# Altium footprint library B5819W-TP.PcbLib: 3 footprints
Each footprint in its own frame and in the unit in brackets; x right, y up, seen from the top. Pads: shape width x height; smd on the part's side, far side on the other; paste and mask are expansions set on the pad; w line width, h text height; cw(c..) or ccw(c..) is an arc to the next point about the centre after c.
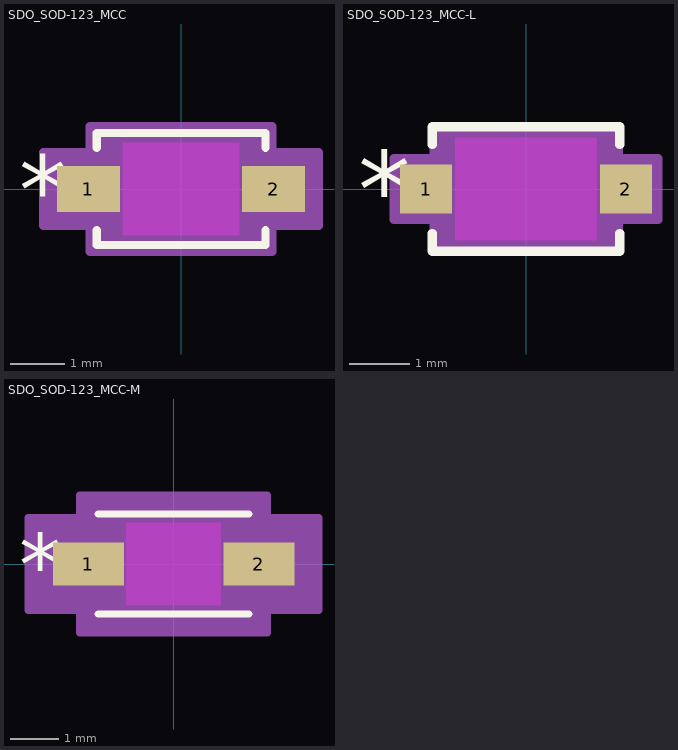
[diagram p0: the footprints below, top view; thin cyan lines are the x and y axes]

## SDO_SOD-123_MCC [mil]
pads (2):
  rect 45.56x33.36 smd paste+0 mask+0: 1(-67,0) 2(67,0)
Top Overlay:
  lines w6: -61,-29.78 -61,-40.5 61,-40.5 61,-29.78 ; -61,29.78 -61,40.5 61,40.5 61,29.78
  text ".Designator" at -137.5,-25 h50
  text "*" at -117.28,-25 h50
Keep-Out Layer:
  region: -42.22,-33.5 -42.22,33.5 42.22,33.5 42.22,-33.5
Mechanical 13:
  lines w1: -56,-17.75 -38.25,-35.5 ; -56,17.75 -38.25,35.5 ; -76,-15.5 -76,15.5 -56,15.5 -56,-15.5 -76,-15.5 ; -56,-35.5 56,-35.5 56,35.5 -56,35.5 -56,-35.5 ; 56,-15.5 56,15.5 76,15.5 76,-15.5 56,-15.5
  text "*" at -58.5,-25 h50
  text ".Designator" at -137.5,-25 h50
Mechanical 15:
  region: -66,-26.68 -99.78,-26.68 -99.78,26.68 -66,26.68 -66,45.5 66,45.5 66,26.68 99.78,26.68 99.78,-26.68 66,-26.68 66,-45.5 -66,-45.5
  lines w6: -99.78,-26.68 -99.78,26.68 -66,26.68 -66,45.5 66,45.5 66,26.68 99.78,26.68 99.78,-26.68 66,-26.68 66,-45.5 -66,-45.5 -66,-26.68 -99.78,-26.68
3D body "SDO_SOD-123_MCC.step": height 59.09, standoff 0, extent -75.98,-35.51 75.98,35.51

## SDO_SOD-123_MCC-L [mil]
pads (2):
  rect 33.75x31.79 smd paste+0 mask+0: 1(-65.03,0) 2(65.03,0)
Top Overlay:
  lines w6: -61,-28.99 -61,-40.5 61,-40.5 61,-28.99 ; -61,28.99 -61,40.5 61,40.5 61,28.99
  text ".Designator" at -137.5,-25 h50
  text "*" at -109.41,-25 h50
Keep-Out Layer:
  region: -46.16,-33.5 -46.16,33.5 46.16,33.5 46.16,-33.5
Mechanical 13:
  lines w1: -56,-17.75 -38.25,-35.5 ; -56,17.75 -38.25,35.5 ; -76,-15.5 -76,15.5 -56,15.5 -56,-15.5 -76,-15.5 ; -56,-35.5 56,-35.5 56,35.5 -56,35.5 -56,-35.5 ; 56,-15.5 56,15.5 76,15.5 76,-15.5 56,-15.5
  text "*" at -58.5,-25 h50
  text ".Designator" at -137.5,-25 h50
Mechanical 15:
  region: -60,-19.89 -85.91,-19.89 -85.91,19.89 -60,19.89 -60,39.5 60,39.5 60,19.89 85.91,19.89 85.91,-19.89 60,-19.89 60,-39.5 -60,-39.5
  lines w6: -85.91,-19.89 -85.91,19.89 -60,19.89 -60,39.5 60,39.5 60,19.89 85.91,19.89 85.91,-19.89 60,-19.89 60,-39.5 -60,-39.5 -60,-19.89 -85.91,-19.89
3D body "SDO_SOD-123_MCC.step": height 59.09, standoff 0, extent -75.98,-35.51 75.98,35.51

## SDO_SOD-123_MCC-M [mil]
pads (2):
  rect 57.37x34.94 smd paste+0 mask+0: 1(-68.97,0) 2(68.97,0)
Top Overlay:
  lines w6: -61,-40.5 61,-40.5 ; -61,40.5 61,40.5
  text ".Designator" at -137.5,-25 h50
  text "*" at -125.15,-25 h50
Keep-Out Layer:
  region: -38.28,-33.5 -38.28,33.5 38.28,33.5 38.28,-33.5
Mechanical 13:
  lines w1: -56,-17.75 -38.25,-35.5 ; -56,17.75 -38.25,35.5 ; -76,-15.5 -76,15.5 -56,15.5 -56,-15.5 -76,-15.5 ; -56,-35.5 56,-35.5 56,35.5 -56,35.5 -56,-35.5 ; 56,-15.5 56,15.5 76,15.5 76,-15.5 56,-15.5
  text "*" at -58.5,-25 h50
  text ".Designator" at -137.5,-25 h50
Mechanical 15:
  region: -76,-37.47 -117.65,-37.47 -117.65,37.47 -76,37.47 -76,55.5 76,55.5 76,37.47 117.65,37.47 117.65,-37.47 76,-37.47 76,-55.5 -76,-55.5
  lines w6: -117.65,-37.47 -117.65,37.47 -76,37.47 -76,55.5 76,55.5 76,37.47 117.65,37.47 117.65,-37.47 76,-37.47 76,-55.5 -76,-55.5 -76,-37.47 -117.65,-37.47
3D body "SDO_SOD-123_MCC.step": height 59.09, standoff 0, extent -75.98,-35.51 75.98,35.51